# Altium schematic symbol library SW DIP-6.Schlib: 1 symbol
Pins are listed as number, name and electrical type; pins without a type are passive.

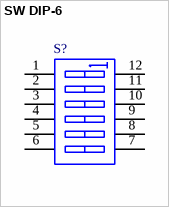
[diagram p0: symbol SW DIP-6]

## SW DIP-6
designator S?
DIP Switch, 6 Position, SPST
pins: 1 A1, 2 A2, 3 A3, 4 A4, 5 A5, 6 A6, 7 B6, 8 B5, 9 B4, 10 B3, 11 B2, 12 B1